# Altium footprint library WPN4020.PcbLib: 1 footprints
Each footprint in its own frame and in the unit in brackets; x right, y up, seen from the top. Pads: shape width x height; smd on the part's side, far side on the other; paste and mask are expansions set on the pad; w line width, h text height; cw(c..) or ccw(c..) is an arc to the next point about the centre after c.
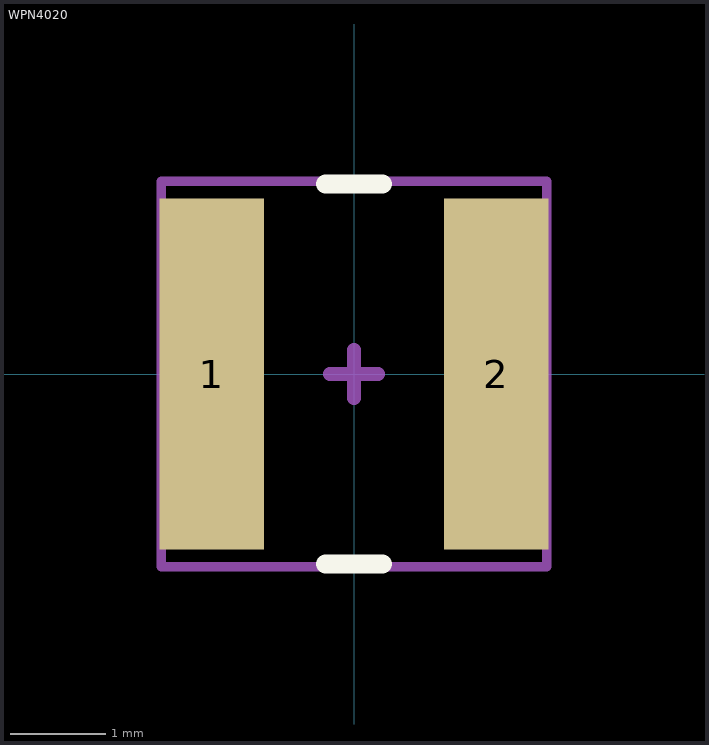
[diagram p0: the footprint, top view; thin cyan lines are the x and y axes]

## WPN4020 [mm]
height 2
pads (2):
  rect 1.1x3.7 smd: 1(-1.5,0) 2(1.5,0)
Top Overlay:
  lines w0.2: -0.3,-2 0.3,-2 ; -0.3,2 0.3,2
Mechanical 15:
  lines w0.1: -2.032,-2.032 -2.032,2.032 2.032,2.032 2.032,-2.032 -2.032,-2.032
  lines w0.15: -0.254,0 0.254,0 ; 0,-0.254 0,0.254
3D body: height 2.05, standoff 0.01, extent -2.01,-2 2.01,2.007